# Altium footprint library Oscillators.PcbLib: 3 footprints
Each footprint in its own frame and in the unit in brackets; x right, y up, seen from the top. Pads: shape width x height; smd on the part's side, far side on the other; paste and mask are expansions set on the pad; w line width, h text height; cw(c..) or ccw(c..) is an arc to the next point about the centre after c.
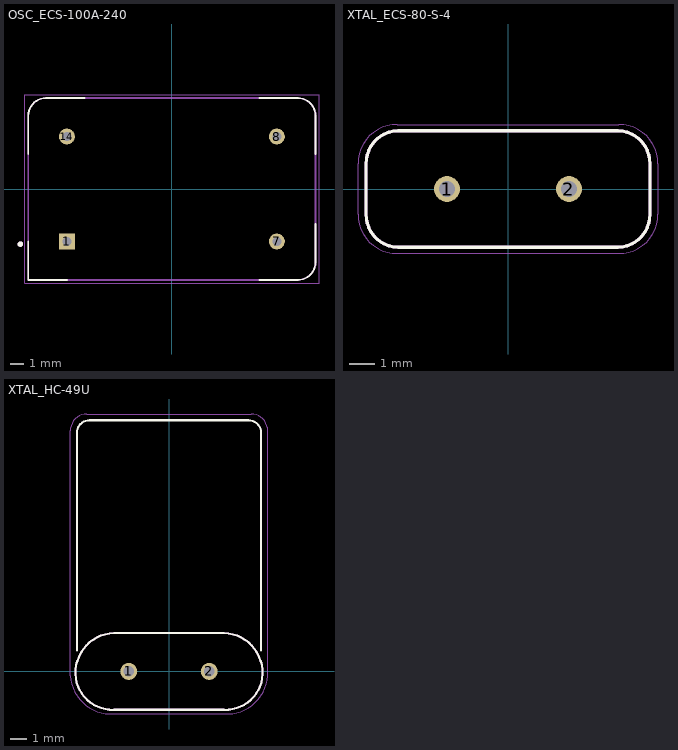
[diagram p0: the footprints below, top view; thin cyan lines are the x and y axes]

## OSC_ECS-100A-240 [mm]
pads (4):
  rect 1.158x1.158 hole 0.65: 1(-7.62,-3.81)
  round 1.158 hole 0.65: 7(7.62,-3.81) 8(7.62,3.81) 14(-7.62,3.81)
Top Overlay:
  circle w0.2: c-11,-4 r0.1
  lines w0.127: -10.43,-3.81 -10.43,-6.6 -7.62,-6.6 ; -10.43,2.54 -10.43,5.3 ; -10.43,5.31 cw(c-9.14,5.31) -9.14,6.6 ; -9.15,6.6 -6.35,6.6 ; 6.35,-6.6 9.15,-6.6 ; 6.35,6.6 9.15,6.6 ; 9.14,-6.6 ccw(c9.14,-5.31) 10.43,-5.31 ; 9.14,6.6 cw(c9.14,5.31) 10.43,5.31 ; 10.43,-5.3 10.43,-2.54 ; 10.43,2.54 10.43,5.3
Mechanical 13:
  circle w0.2: c-11,-4 r0.1
  lines w0.127: -10.43,5.293 cw(c-9.145,5.315) -9.167,6.6 ; -10.43,5.3 -10.43,-6.6 9.16,-6.6 ; -9.16,6.6 9.16,6.6 ; 9.167,-6.6 ccw(c9.145,-5.315) 10.43,-5.293 ; 9.167,6.6 cw(c9.145,5.315) 10.43,5.293 ; 10.43,-5.3 10.43,5.3
Mechanical 15:
  lines w0.05: -10.68,-6.85 -10.68,6.85 10.68,6.85 10.68,-6.85 -10.68,-6.85
3D body "ECS-100A-240.STEP": height 7.35, standoff -5.08, extent -10.379,-6.6 10.481,6.6

## XTAL_ECS-80-S-4 [mm]
pads (2):
  round 1.03 hole 0.63: 1(-2.44,0) 2(2.44,0)
Top Overlay:
  lines w0.127: -5.675,-1.012 ccw(c-4.38,-1.035) -4.403,-2.33 ; -5.675,-1.01 -5.675,1.01 ; -5.675,1.012 cw(c-4.38,1.035) -4.403,2.33 ; -4.405,-2.33 4.405,-2.33 ; -4.405,2.33 4.405,2.33 ; 4.403,-2.33 ccw(c4.38,-1.035) 5.675,-1.012 ; 4.403,2.33 cw(c4.38,1.035) 5.675,1.012 ; 5.675,-1.01 5.675,1.01
Mechanical 13:
  lines w0.127: -5.675,-1.012 ccw(c-4.38,-1.035) -4.403,-2.33 ; -5.675,-1.01 -5.675,1.01 ; -5.675,1.012 cw(c-4.38,1.035) -4.403,2.33 ; -4.405,-2.33 4.405,-2.33 ; -4.405,2.33 4.405,2.33 ; 4.403,-2.33 ccw(c4.38,-1.035) 5.675,-1.012 ; 4.403,2.33 cw(c4.38,1.035) 5.675,1.012 ; 5.675,-1.01 5.675,1.01
Mechanical 15:
  lines w0.05: -6,-1.01 ccw(c-4.43,-1.01) -4.43,-2.58 4.43,-2.58 ccw(c4.43,-1.01) 6,-1.01 6,1.01 ccw(c4.43,1.01) 4.43,2.58 -4.43,2.58 ccw(c-4.43,1.01) -6,1.01 -6,-1.01
3D body: height 33.95, standoff -2.05, extent -1.143,-1.016 -1.143,-1.016
3D body "ECS-80-S-4.STEP": height 3.75, standoff -12.45, extent -5.675,-2.325 5.675,2.325

## XTAL_HC-49U [mm]
pads (2):
  round 1.03 hole 0.63: 1(-2.44,0) 2(2.44,0)
Top Overlay:
  lines w0.127: -5.675,-0.169 cw(c-3.26,-0.085) -3.344,2.33 ; -5.675,-0.168 ccw(c-3.435,-0.09) -3.357,-2.33 ; -5.588,1.27 -5.588,14.478 cw(c-4.826,14.478) -4.826,15.24 4.801,15.24 ; -3.35,-2.33 3.35,-2.33 ; -3.35,2.33 3.35,2.33 ; 3.344,2.33 cw(c3.26,-0.085) 5.675,-0.169 ; 3.357,-2.33 ccw(c3.435,-0.09) 5.675,-0.168 ; 4.826,15.24 cw(c4.826,14.478) 5.588,14.481 ; 5.588,1.27 5.588,14.478
Mechanical 13:
  lines w0.127: -5.675,-0.169 cw(c-3.26,-0.085) -3.344,2.33 ; -5.675,-0.168 ccw(c-3.435,-0.09) -3.357,-2.33 ; -3.35,-2.33 3.35,-2.33 ; 3.344,2.33 cw(c3.26,-0.085) 5.675,-0.169 ; 3.357,-2.33 ccw(c3.435,-0.09) 5.675,-0.168
Mechanical 15:
  lines w0.05: -5.999,-0.264 ccw(c-3.51,-0.09) -3.336,-2.579 ; -6,-0.25 -6,14.605 ; -5.994,14.605 cw(c-4.978,14.605) -4.978,15.621 4.978,15.621 cw(c4.978,14.605) 5.994,14.605 ; -3.35,-2.58 3.35,-2.58 ; 3.336,-2.579 ccw(c3.51,-0.09) 5.999,-0.264 ; 6,-0.25 6,14.808
3D body "HC-49U.STEP": height 14.22, standoff -11.94, extent -5.508,-2.5 5.842,2.5